# Altium schematic symbol library UF4 Series - Vertical.SchLib: 8 symbols
Pins are listed as number, name and electrical type; pins without a type are passive.

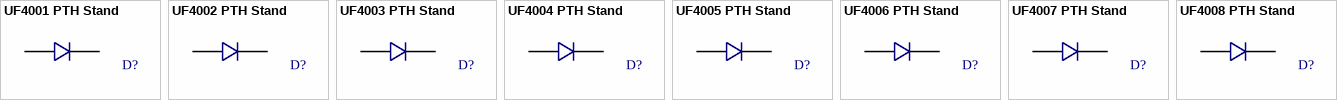
[diagram p0: symbols UF4001 PTH Stand to UF4008 PTH Stand]

## UF4001 PTH Stand
designator D?, comment UF4001 Stand  (value not drawn)
Diode Standard 50V 1A Through Hole DO-204AL (DO-41); Manufacturer 1: ON Semiconductor; ComponentLink1Description: Datasheet; ComponentLink1URL: http://www.onsemi.com/pub/Collateral/1N4001-D.PDF; Manufacturer 1 PN: UF4001; Current: 1A; Voltage: 50V; Digikey PN: UF4001CT-ND
footprint UF4001 STAND (Diode Standard 50V 1A Through Hole DO-204AL (DO-41))
pins: A, K

## UF4002 PTH Stand
designator D?, comment UF4002 Stand  (value not drawn)
Diode Standard 100V 1A Through Hole DO-204AL (DO-41); Manufacturer 1: ON Semiconductor; ComponentLink1Description: Datasheet; ComponentLink1URL: http://www.onsemi.com/pub/Collateral/1N4001-D.PDF; Manufacturer 1 PN: UF4002; Current: 1A; Voltage: 100V; Digikey PN: UF4002FSCT-ND
footprint UF4002 STAND (Diode Standard 100V 1A Through Hole DO-204AL (DO-41))
pins: A, K

## UF4003 PTH Stand
designator D?, comment UF4003 Stand  (value not drawn)
Diode Standard 200V 1A Through Hole DO-204AL (DO-41); Manufacturer 1: ON Semiconductor; ComponentLink1Description: Datasheet; ComponentLink1URL: http://www.onsemi.com/pub/Collateral/1N4001-D.PDF; Manufacturer 1 PN: UF4003; Current: 1A; Voltage: 200V; Digikey PN: UF4003CT-ND
footprint UF4003 STAND (Diode Standard 200V 1A Through Hole DO-204AL (DO-41))
pins: A, K

## UF4004 PTH Stand
designator D?, comment UF4004 Stand  (value not drawn)
Diode Standard 400V 1A Through Hole DO-204AL (DO-41); Manufacturer 1: ON Semiconductor; ComponentLink1Description: Datasheet; ComponentLink1URL: http://www.onsemi.com/pub/Collateral/1N4001-D.PDF; Manufacturer 1 PN: UF4004; Current: 1A; Voltage: 400V; Digikey PN: UF4004FSCT-ND
footprint UF4004 STAND (Diode Standard 400V 1A Through Hole DO-204AL (DO-41))
pins: A, K

## UF4005 PTH Stand
designator D?, comment UF4005 Stand  (value not drawn)
Diode Standard 600V 1A Through Hole DO-204AL (DO-41); Manufacturer 1: ON Semiconductor; ComponentLink1Description: Datasheet; ComponentLink1URL: http://www.onsemi.com/pub/Collateral/1N4001-D.PDF; Manufacturer 1 PN: UF4005; Current: 1A; Voltage: 600V; Digikey PN: UF4005CT-ND
footprint UF4005 STAND (Diode Standard 600V 1A Through Hole DO-204AL (DO-41))
pins: A, K

## UF4006 PTH Stand
designator D?, comment UF4006 Stand  (value not drawn)
Diode Standard 800V 1A Through Hole DO-204AL (DO-41); Manufacturer 1: ON Semiconductor; ComponentLink1Description: Datasheet; ComponentLink1URL: http://www.onsemi.com/pub/Collateral/1N4001-D.PDF; Manufacturer 1 PN: UF4006; Current: 1A; Voltage: 800V; Digikey PN: UF4006CT-ND
footprint UF4006 STAND (Diode Standard 800V 1A Through Hole DO-204AL (DO-41))
pins: A, K

## UF4007 PTH Stand
designator D?, comment UF4007 Stand  (value not drawn)
Diode Standard 1000V 1A Through Hole DO-204AL (DO-41); Manufacturer 1: ON Semiconductor; ComponentLink1Description: Datasheet; ComponentLink1URL: http://www.onsemi.com/pub/Collateral/1N4001-D.PDF; Manufacturer 1 PN: UF4007; Current: 1A; Voltage: 1000V; Digikey PN: UF4007CT-ND
footprint UF4007 STAND (Diode Standard 1000V 1A Through Hole DO-204AL (DO-41))
pins: A, K

## UF4008 PTH Stand
designator D?, comment UF4008 Stand  (value not drawn)
Diode Standard 1000V 1A Through Hole DO-41; Manufacturer 1: Comchip Technology; Manufacturer 1 PN: UF4008-G; ComponentLink1Description: Datasheet; ComponentLink1URL: http://www.onsemi.com/pub/Collateral/1N4001-D.PDF; Current: 1A; Voltage: 1000V; Digikey PN: 641-1745-1-ND
footprint UF4008 STAND (Diode Standard 1000V 1A Through Hole DO-41)
pins: A, K